# Altium schematic symbol library usb.SchLib: 1 symbol
Pins are listed as number, name and electrical type; pins without a type are passive.

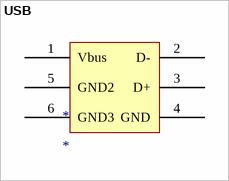
[diagram p0: symbol USB]

## USB
designator *
pins: 1 Vbus, 2 D-, 3 D+, 4 GND, 5 GND2, 6 GND3